# Altium footprint library LGA.PcbLib: 1 footprints
Each footprint in its own frame and in the unit in brackets; x right, y up, seen from the top. Pads: shape width x height; smd on the part's side, far side on the other; paste and mask are expansions set on the pad; w line width, h text height; cw(c..) or ccw(c..) is an arc to the next point about the centre after c.
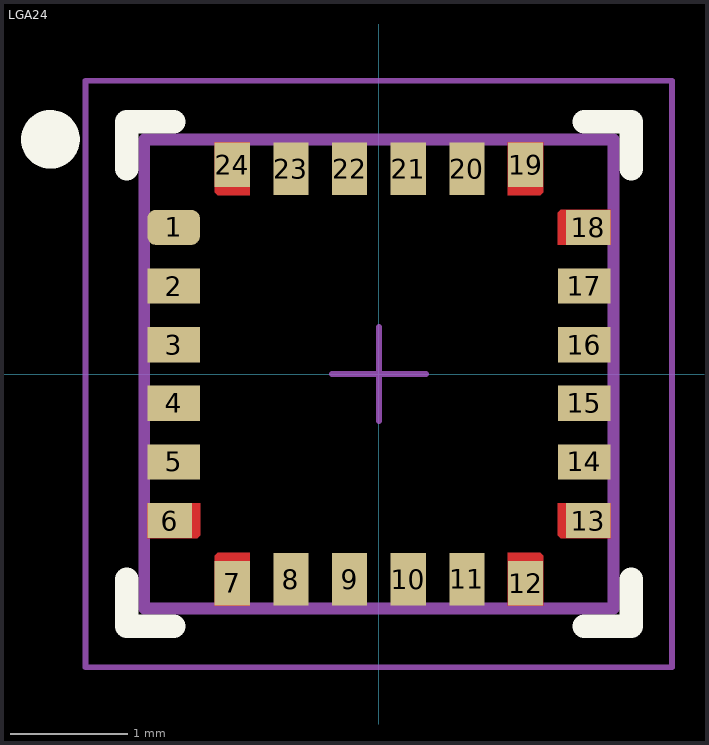
[diagram p0: the footprint, top view; thin cyan lines are the x and y axes]

## LGA24 [mm] "LGA, 24-Leads, Body 4x4mm, Pitch 0.5mm, IPC Normal Density"
height 1.07
pads (24):
  rrect50% 0.45x0.3 smd mask+0.05: 1(-1.75,1.25)
  rect 0.45x0.3 smd mask+0.05: 2(-1.75,0.75) 3(-1.75,0.25) 4(-1.75,-0.25) 5(-1.75,-0.75) 14(1.75,-0.75) 15(1.75,-0.25) 16(1.75,0.25) 17(1.75,0.75)
  rect 0.38x0.3 smd mask+0.05: 6(-1.785,-1.25) 13(1.785,-1.25) 18(1.785,1.25)
  rect 0.3x0.38 smd mask+0.05: 7(-1.25,-1.785) 12(1.25,-1.785) 19(1.25,1.785) 24(-1.25,1.785)
  rect 0.3x0.45 smd mask+0.05: 8(-0.75,-1.75) 9(-0.25,-1.75) 10(0.25,-1.75) 11(0.75,-1.75) 20(0.75,1.75) 21(0.25,1.75) 22(-0.25,1.75) 23(-0.75,1.75)
Top Layer:
  region: 1.375,-1.525 1.1,-1.525 1.1,-1.975 1.4,-1.975 1.4,-1.55
  region: 1.525,-1.375 1.525,-1.1 1.975,-1.1 1.975,-1.4 1.55,-1.4
  region: -1.525,-1.375 -1.525,-1.1 -1.975,-1.1 -1.975,-1.4 -1.55,-1.4
  region: -1.375,-1.525 -1.1,-1.525 -1.1,-1.975 -1.4,-1.975 -1.4,-1.55
  region: -1.375,1.525 -1.1,1.525 -1.1,1.975 -1.4,1.975 -1.4,1.55
  region: 1.375,1.525 1.1,1.525 1.1,1.975 1.4,1.975 1.4,1.55
  region: 1.525,1.375 1.525,1.1 1.975,1.1 1.975,1.4 1.55,1.4
Top Overlay:
  circle w0.25: c-2.8,2 r0.125
  lines w0.2: -2.15,-1.75 -2.15,-2.15 -1.75,-2.15 ; -2.15,1.75 -2.15,2.15 -1.75,2.15 ; 1.75,-2.15 2.15,-2.15 2.15,-1.75 ; 1.75,2.15 2.15,2.15 2.15,1.75
Mechanical 13:
  lines w0.1: -2,-2 2,-2 2,2 -2,2 -2,-2
Mechanical 15:
  lines w0.05: -0.4,0 0.4,0 ; 0,-0.4 0,0.4 ; -2.5,-2.5 2.5,-2.5 2.5,2.5 -2.5,2.5 -2.5,-2.5
3D body: height 1.07, standoff 0.05, extent -2,-2 2,2